# EAGLE library part MAX517 (library maxim-dac_rev2)
MAX517 I²C-8bit-DA-Converter - created by Mario Blunk - electronics & IT engineering at www.train-z.de
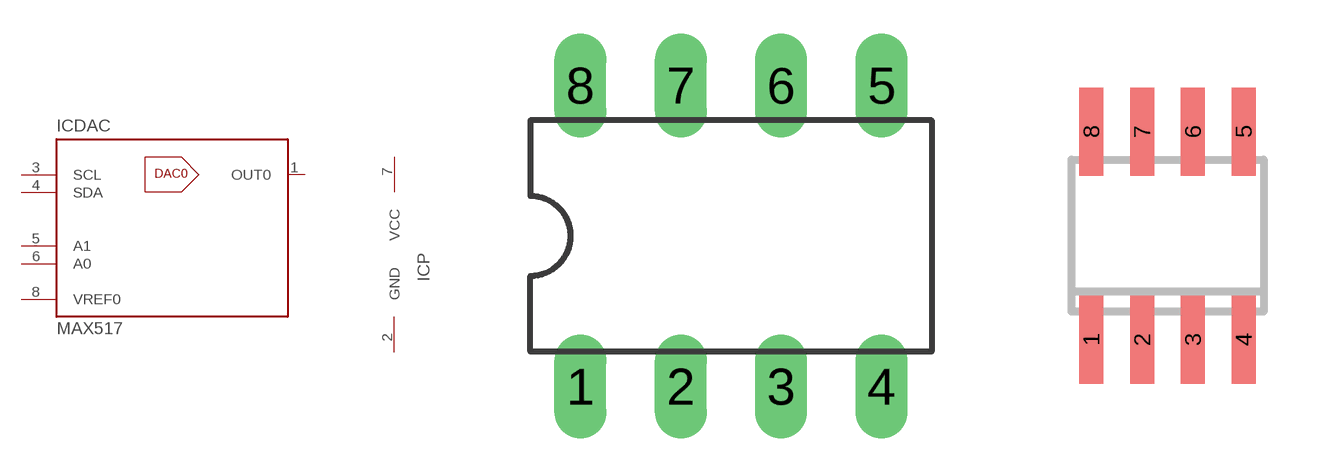
[diagram p0: symbol with the pads of DIL08; footprints DIL08, SO08]

Designator prefix IC; gates DAC=MAX517 P=PWR

## MAX517DIP  [DIL08]
1  DAC:OUT0  out
2  P:GND  pwr
3  DAC:SCL
4  DAC:SDA
5  DAC:A1  in
6  DAC:A0  in
7  P:VCC  pwr
8  DAC:VREF0  in

## MAX517SO  [SO08]
Pads as for DIL08

## Footprint DIL08 (pad centres in mm)
drill 0.813 long: 1 -3.81,-3.81; 2 -1.27,-3.81; 3 1.27,-3.81; 4 3.81,-3.81; 5 3.81,3.81; 6 1.27,3.81; 7 -1.27,3.81; 8 -3.81,3.81

## Footprint SO08 (pad centres in mm)
SMALL OUTLINE INTEGRATED CIRCUIT body 3.9 mm/JEDEC MS-012AA
smd 0.6 x 2.2: 1 -1.905,-2.6; 2 -0.635,-2.6; 3 0.635,-2.6; 4 1.905,-2.6; 5 1.905,2.6; 6 0.635,2.6; 7 -0.635,2.6; 8 -1.905,2.6